# Altium integrated library WE-PD2SR_rev15a.intlib: 20 symbols
Pins are listed as number, name and electrical type; pins without a type are passive.

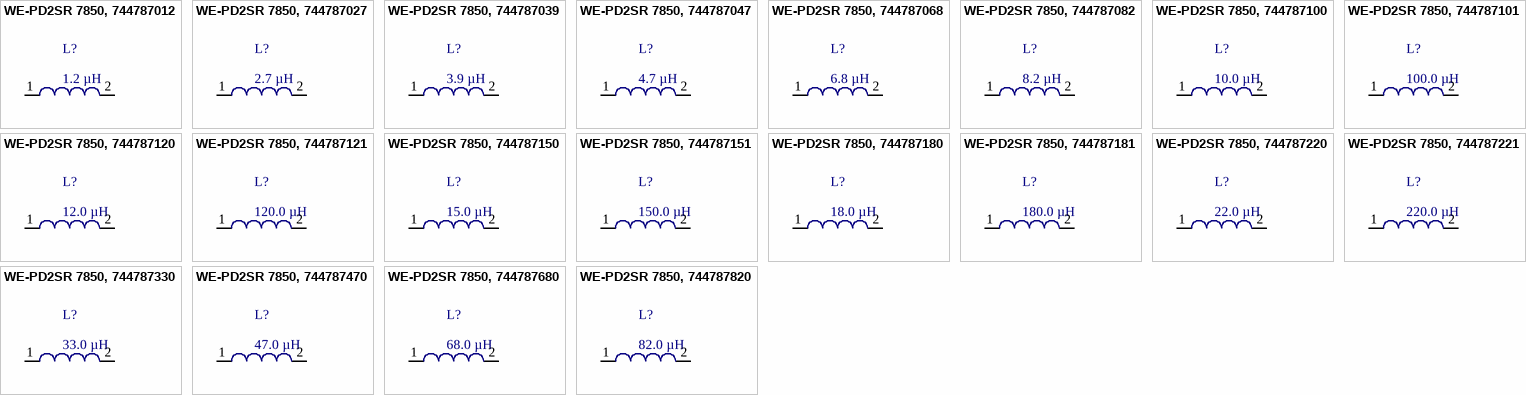
[diagram p0: symbols WE-PD2SR 7850, 744787012 to WE-PD2SR 7850, 744787820]

## WE-PD2SR 7850, 744787012
designator L?, comment 1.2 µH
Shielded Power Inductor WE-PD2SR, L=1.2 µH; PartNo: 744787012; Manufacturer: Würth Elektronik eiSos GmbH; Inductance: 1.2 µH; ComponentLink1Description: Manufacturer; ComponentLink1URL: http://www.we-online.de; Created by: Otto Christin; Created Date: Aug 2013; ComponentLink2Description: Datasheet; ComponentLink2URL: http://www.we-online.de/katalog/media/pdf/744787012.pdf
footprint WE-PD2SR 7850 (Chip Inductor, 2-Leads, Body 7.8x7.0mm, IPC Medium Density)
pins: 1, 2

## WE-PD2SR 7850, 744787027
designator L?, comment 2.7 µH
Shielded Power Inductor WE-PD2SR, L=2.7 µH; PartNo: 744787027; Manufacturer: Würth Elektronik eiSos GmbH; Inductance: 2.7 µH; ComponentLink1Description: Manufacturer; ComponentLink1URL: http://www.we-online.de; Created by: Otto Christin; Created Date: Aug 2013; ComponentLink2Description: Datasheet; ComponentLink2URL: http://www.we-online.de/katalog/media/pdf/744787027.pdf
footprint WE-PD2SR 7850 (Chip Inductor, 2-Leads, Body 7.8x7.0mm, IPC Medium Density)
pins: 1, 2

## WE-PD2SR 7850, 744787039
designator L?, comment 3.9 µH
Shielded Power Inductor WE-PD2SR, L=3.9 µH; PartNo: 744787039; Manufacturer: Würth Elektronik eiSos GmbH; Inductance: 3.9 µH; ComponentLink1Description: Manufacturer; ComponentLink1URL: http://www.we-online.de; Created by: Otto Christin; Created Date: Aug 2013; ComponentLink2Description: Datasheet; ComponentLink2URL: http://www.we-online.de/katalog/media/pdf/744787039.pdf
footprint Model Name (Footprint not found)
footprint WE-PD2SR 7850 (Chip Inductor, 2-Leads, Body 7.8x7.0mm, IPC Medium Density)
pins: 1, 2

## WE-PD2SR 7850, 744787047
designator L?, comment 4.7 µH
Shielded Power Inductor WE-PD2SR, L=4.7 µH; PartNo: 744787047; Manufacturer: Würth Elektronik eiSos GmbH; Inductance: 4.7 µH; ComponentLink1Description: Manufacturer; ComponentLink1URL: http://www.we-online.de; Created by: Otto Christin; Created Date: Aug 2013; ComponentLink2Description: Datasheet; ComponentLink2URL: http://www.we-online.de/katalog/media/pdf/744787047.pdf
footprint WE-PD2SR 7850 (Chip Inductor, 2-Leads, Body 7.8x7.0mm, IPC Medium Density)
pins: 1, 2

## WE-PD2SR 7850, 744787068
designator L?, comment 6.8 µH
Shielded Power Inductor WE-PD2SR, L=6.8 µH; PartNo: 744787068; Manufacturer: Würth Elektronik eiSos GmbH; Inductance: 6.8 µH; ComponentLink1Description: Manufacturer; ComponentLink1URL: http://www.we-online.de; Created by: Otto Christin; Created Date: Aug 2013; ComponentLink2Description: Datasheet; ComponentLink2URL: http://www.we-online.de/katalog/media/pdf/744787068.pdf
footprint WE-PD2SR 7850 (Chip Inductor, 2-Leads, Body 7.8x7.0mm, IPC Medium Density)
pins: 1, 2

## WE-PD2SR 7850, 744787082
designator L?, comment 8.2 µH
Shielded Power Inductor WE-PD2SR, L=^8.2 µH; PartNo: 744787082; Manufacturer: Würth Elektronik eiSos GmbH; Inductance: 8.2 µH; ComponentLink1Description: Manufacturer; ComponentLink1URL: http://www.we-online.de; Created by: Otto Christin; Created Date: Aug 2013; ComponentLink2Description: Datasheet; ComponentLink2URL: http://www.we-online.de/katalog/media/pdf/744787082.pdf
footprint WE-PD2SR 7850 (Chip Inductor, 2-Leads, Body 7.8x7.0mm, IPC Medium Density)
pins: 1, 2

## WE-PD2SR 7850, 744787100
designator L?, comment 10.0 µH
Shielded Power Inductor WE-PD2SR, L=10.0 µH; PartNo: 744787100; Manufacturer: Würth Elektronik eiSos GmbH; Inductance: 10.0 µH; ComponentLink1Description: Manufacturer; ComponentLink1URL: http://www.we-online.de; Created by: Otto Christin; Created Date: Aug 2013; ComponentLink2Description: Datasheet; ComponentLink2URL: http://www.we-online.de/katalog/media/pdf/744787100.pdf
footprint WE-PD2SR 7850 (Chip Inductor, 2-Leads, Body 7.8x7.0mm, IPC Medium Density)
pins: 1, 2

## WE-PD2SR 7850, 744787101
designator L?, comment 100.0 µH
Shielded Power Inductor WE-PD2SR, L=100.0 µH; PartNo: 744787101; Manufacturer: Würth Elektronik eiSos GmbH; Inductance: 100.0 µH; ComponentLink1Description: Manufacturer; ComponentLink1URL: http://www.we-online.de; Created by: Otto Christin; Created Date: Aug 2013; ComponentLink2Description: Datasheet; ComponentLink2URL: http://www.we-online.de/katalog/media/pdf/744787101.pdf
footprint Model Name (Footprint not found)
footprint WE-PD2SR 7850 (Chip Inductor, 2-Leads, Body 7.8x7.0mm, IPC Medium Density)
pins: 1, 2

## WE-PD2SR 7850, 744787120
designator L?, comment 12.0 µH
Shielded Power Inductor WE-PD2SR, L=12.0 µH; PartNo: 744787120; Manufacturer: Würth Elektronik eiSos GmbH; Inductance: 12.0 µH; ComponentLink1Description: Manufacturer; ComponentLink1URL: http://www.we-online.de; Created by: Otto Christin; Created Date: Aug 2013; ComponentLink2Description: Datasheet; ComponentLink2URL: http://www.we-online.de/katalog/media/pdf/744787120.pdf
footprint WE-PD2SR 7850 (Chip Inductor, 2-Leads, Body 7.8x7.0mm, IPC Medium Density)
pins: 1, 2

## WE-PD2SR 7850, 744787121
designator L?, comment 120.0 µH
Shielded Power Inductor WE-PD2SR, L=120.0 µH; PartNo: 744787121; Manufacturer: Würth Elektronik eiSos GmbH; Inductance: 120.0 µH; ComponentLink1Description: Manufacturer; ComponentLink1URL: http://www.we-online.de; Created by: Otto Christin; Created Date: Aug 2013; ComponentLink2Description: Datasheet; ComponentLink2URL: http://www.we-online.de/katalog/media/pdf/744787121.pdf
footprint WE-PD2SR 7850 (Chip Inductor, 2-Leads, Body 7.8x7.0mm, IPC Medium Density)
pins: 1, 2

## WE-PD2SR 7850, 744787150
designator L?, comment 15.0 µH
Shielded Power Inductor WE-PD2SR, L=15.0 µH; PartNo: 744787150; Manufacturer: Würth Elektronik eiSos GmbH; Inductance: 15.0 µH; ComponentLink1Description: Manufacturer; ComponentLink1URL: http://www.we-online.de; Created by: Otto Christin; Created Date: Aug 2013; ComponentLink2Description: Datasheet; ComponentLink2URL: http://www.we-online.de/katalog/media/pdf/744787150.pdf
footprint WE-PD2SR 7850 (Chip Inductor, 2-Leads, Body 7.8x7.0mm, IPC Medium Density)
pins: 1, 2

## WE-PD2SR 7850, 744787151
designator L?, comment 150.0 µH
Shielded Power Inductor WE-PD2SR, L=150.0 µH; PartNo: 744787151; Manufacturer: Würth Elektronik eiSos GmbH; Inductance: 150.0 µH; ComponentLink1Description: Manufacturer; ComponentLink1URL: http://www.we-online.de; Created by: Otto Christin; Created Date: Aug 2013; ComponentLink2Description: Datasheet; ComponentLink2URL: http://www.we-online.de/katalog/media/pdf/744787151.pdf
footprint WE-PD2SR 7850 (Chip Inductor, 2-Leads, Body 7.8x7.0mm, IPC Medium Density)
pins: 1, 2

## WE-PD2SR 7850, 744787180
designator L?, comment 18.0 µH
Shielded Power Inductor WE-PD2SR, L=18.0 µH; PartNo: 744787180; Manufacturer: Würth Elektronik eiSos GmbH; Inductance: 18.0 µH; ComponentLink1Description: Manufacturer; ComponentLink1URL: http://www.we-online.de; Created by: Otto Christin; Created Date: Aug 2013; ComponentLink2Description: Datasheet; ComponentLink2URL: http://www.we-online.de/katalog/media/pdf/744787180.pdf
footprint WE-PD2SR 7850 (Chip Inductor, 2-Leads, Body 7.8x7.0mm, IPC Medium Density)
pins: 1, 2

## WE-PD2SR 7850, 744787181
designator L?, comment 180.0 µH
Shielded Power Inductor WE-PD2SR, L=180.0 µH; PartNo: 744787181; Manufacturer: Würth Elektronik eiSos GmbH; Inductance: 180.0 µH; ComponentLink1Description: Manufacturer; ComponentLink1URL: http://www.we-online.de; Created by: Otto Christin; Created Date: Aug 2013; ComponentLink2Description: Datasheet; ComponentLink2URL: http://www.we-online.de/katalog/media/pdf/744787181.pdf
footprint WE-PD2SR 7850 (Chip Inductor, 2-Leads, Body 7.8x7.0mm, IPC Medium Density)
pins: 1, 2

## WE-PD2SR 7850, 744787220
designator L?, comment 22.0 µH
Shielded Power Inductor WE-PD2SR, L=22.0 µH; PartNo: 744787220; Manufacturer: Würth Elektronik eiSos GmbH; Inductance: 22.0 µH; ComponentLink1Description: Manufacturer; ComponentLink1URL: http://www.we-online.de; Created by: Otto Christin; Created Date: Aug 2013; ComponentLink2Description: Datasheet; ComponentLink2URL: http://www.we-online.de/katalog/media/pdf/744787220.pdf
footprint WE-PD2SR 7850 (Chip Inductor, 2-Leads, Body 7.8x7.0mm, IPC Medium Density)
pins: 1, 2

## WE-PD2SR 7850, 744787221
designator L?, comment 220.0 µH
Shielded Power Inductor WE-PD2SR, L=220.0 µH; PartNo: 744787221; Manufacturer: Würth Elektronik eiSos GmbH; Inductance: 220.0 µH; ComponentLink1Description: Manufacturer; ComponentLink1URL: http://www.we-online.de; Created by: Otto Christin; Created Date: Aug 2013; ComponentLink2Description: Datasheet; ComponentLink2URL: http://www.we-online.de/katalog/media/pdf/744787221.pdf
footprint WE-PD2SR 7850 (Chip Inductor, 2-Leads, Body 7.8x7.0mm, IPC Medium Density)
pins: 1, 2

## WE-PD2SR 7850, 744787330
designator L?, comment 33.0 µH
Shielded Power Inductor WE-PD2SR, L=33.0 µH; PartNo: 744787330; Manufacturer: Würth Elektronik eiSos GmbH; Inductance: 33.0 µH; ComponentLink1Description: Manufacturer; ComponentLink1URL: http://www.we-online.de; Created by: Otto Christin; Created Date: Aug 2013; ComponentLink2Description: Datasheet; ComponentLink2URL: http://www.we-online.de/katalog/media/pdf/744787330.pdf
footprint WE-PD2SR 7850 (Chip Inductor, 2-Leads, Body 7.8x7.0mm, IPC Medium Density)
pins: 1, 2

## WE-PD2SR 7850, 744787470
designator L?, comment 47.0 µH
Shielded Power Inductor WE-PD2SR, L=47.0 µH; PartNo: 744787470; Manufacturer: Würth Elektronik eiSos GmbH; Inductance: 47.0 µH; ComponentLink1Description: Manufacturer; ComponentLink1URL: http://www.we-online.de; Created by: Otto Christin; Created Date: Aug 2013; ComponentLink2Description: Datasheet; ComponentLink2URL: http://www.we-online.de/katalog/media/pdf/744787470.pdf
footprint WE-PD2SR 7850 (Chip Inductor, 2-Leads, Body 7.8x7.0mm, IPC Medium Density)
pins: 1, 2

## WE-PD2SR 7850, 744787680
designator L?, comment 68.0 µH
Shielded Power Inductor WE-PD2SR, L=68.0 µH; PartNo: 744787680; Manufacturer: Würth Elektronik eiSos GmbH; Inductance: 68.0 µH; ComponentLink1Description: Manufacturer; ComponentLink1URL: http://www.we-online.de; Created by: Otto Christin; Created Date: Aug 2013; ComponentLink2Description: Datasheet; ComponentLink2URL: http://www.we-online.de/katalog/media/pdf/744787680.pdf
footprint WE-PD2SR 7850 (Chip Inductor, 2-Leads, Body 7.8x7.0mm, IPC Medium Density)
pins: 1, 2

## WE-PD2SR 7850, 744787820
designator L?, comment 82.0 µH
Shielded Power Inductor WE-PD2SR, L=82.0 µH; PartNo: 744787820; Manufacturer: Würth Elektronik eiSos GmbH; Inductance: 82.0 µH; ComponentLink1Description: Manufacturer; ComponentLink1URL: http://www.we-online.de; Created by: Otto Christin; Created Date: Aug 2013; ComponentLink2Description: Datasheet; ComponentLink2URL: http://www.we-online.de/katalog/media/pdf/744787820.pdf
footprint WE-PD2SR 7850 (Chip Inductor, 2-Leads, Body 7.8x7.0mm, IPC Medium Density)
pins: 1, 2